# EAGLE library part EFM32LG332F256G-E-QFP64 (library clackboard_lib)
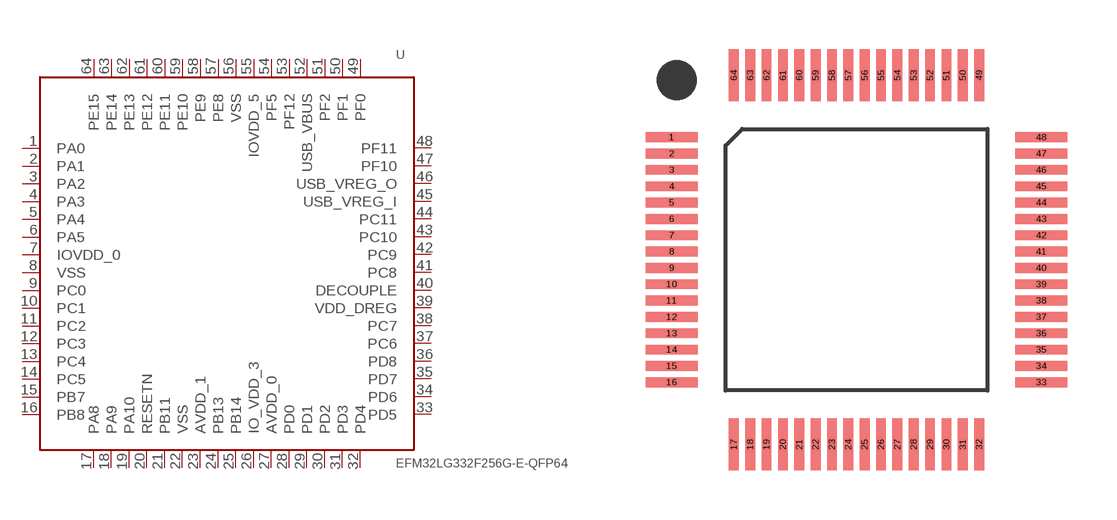
[diagram p3: symbol with the pads of EFM32LG332F256G-E-QFP64; footprint EFM32LG332F256G-E-QFP64]

Designator prefix U

## EFM32LG332F256G-E-QFP64  [EFM32LG332F256G-E-QFP64]
1  PA0
2  PA1
3  PA2
4  PA3
5  PA4
6  PA5
7  IOVDD_0
8  VSS
9  PC0
10  PC1
11  PC2
12  PC3
13  PC4
14  PC5
15  PB7
16  PB8
17  PA8
18  PA9
19  PA10
20  RESETN
21  PB11
22  VSS
23  AVDD_1
24  PB13
25  PB14
26  IO_VDD_3
27  AVDD_0
28  PD0
29  PD1
30  PD2
31  PD3
32  PD4
33  PD5
34  PD6
35  PD7
36  PD8
37  PC6
38  PC7
39  VDD_DREG
40  DECOUPLE
41  PC8
42  PC9
43  PC10
44  PC11
45  USB_VREG_I
46  USB_VREG_O
47  PF10
48  PF11
49  PF0
50  PF1
51  PF2
52  USB_VBUS
53  PF12
54  PF5
55  IOVDD_5
56  VSS
57  PE8
58  PE9
59  PE10
60  PE11
61  PE12
62  PE13
63  PE14
64  PE15

## Footprint EFM32LG332F256G-E-QFP64 (pad centres in mm)
smd 1.6 x 0.3: 1 -5.65,3.75; 2 -5.65,3.25; 3 -5.65,2.75; 4 -5.65,2.25; 5 -5.65,1.75; 6 -5.65,1.25; 7 -5.65,0.75; 8 -5.65,0.25; 9 -5.65,-0.25; 10 -5.65,-0.75; 11 -5.65,-1.25; 12 -5.65,-1.75; 13 -5.65,-2.25; 14 -5.65,-2.75; 15 -5.65,-3.25; 16 -5.65,-3.75; 33 5.65,-3.75; 34 5.65,-3.25; 35 5.65,-2.75; 36 5.65,-2.25; 37 5.65,-1.75; 38 5.65,-1.25; 39 5.65,-0.75; 40 5.65,-0.25; 41 5.65,0.25; 42 5.65,0.75; 43 5.65,1.25; 44 5.65,1.75; 45 5.65,2.25; 46 5.65,2.75; 47 5.65,3.25; 48 5.65,3.75
smd 0.3 x 1.6: 17 -3.75,-5.65; 18 -3.25,-5.65; 19 -2.75,-5.65; 20 -2.25,-5.65; 21 -1.75,-5.65; 22 -1.25,-5.65; 23 -0.75,-5.65; 24 -0.25,-5.65; 25 0.25,-5.65; 26 0.75,-5.65; 27 1.25,-5.65; 28 1.75,-5.65; 29 2.25,-5.65; 30 2.75,-5.65; 31 3.25,-5.65; 32 3.75,-5.65; 49 3.75,5.65; 50 3.25,5.65; 51 2.75,5.65; 52 2.25,5.65; 53 1.75,5.65; 54 1.25,5.65; 55 0.75,5.65; 56 0.25,5.65; 57 -0.25,5.65; 58 -0.75,5.65; 59 -1.25,5.65; 60 -1.75,5.65; 61 -2.25,5.65; 62 -2.75,5.65; 63 -3.25,5.65; 64 -3.75,5.65